# Altium footprint library conn.PcbLib: 17 footprints (part 1 of 2)
Each footprint in its own frame and in the unit in brackets; x right, y up, seen from the top. Pads: shape width x height; smd on the part's side, far side on the other; paste and mask are expansions set on the pad; w line width, h text height; cw(c..) or ccw(c..) is an arc to the next point about the centre after c.
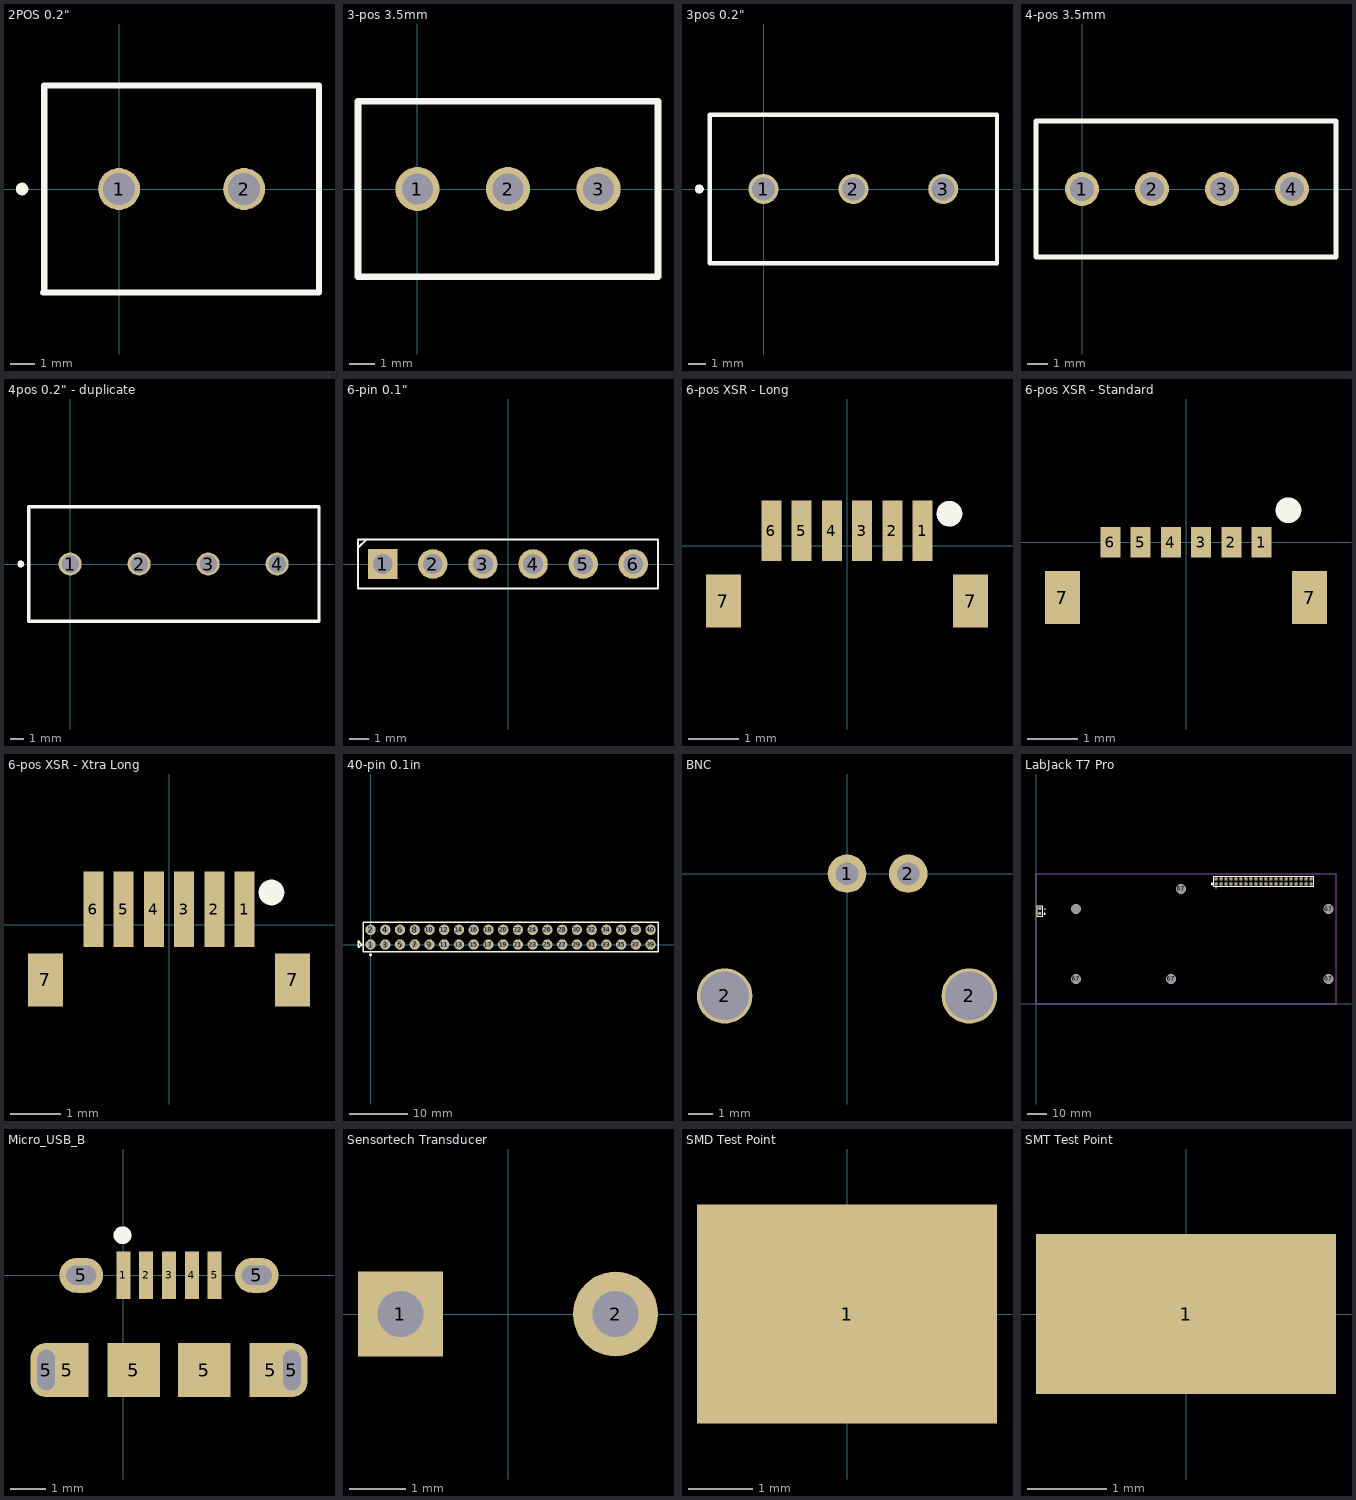
[diagram p0: the footprints below, top view; thin cyan lines are the x and y axes]

## 2POS 0.2" [mm]
pads (2):
  round 1.7 hole 1.3: 1(0,0) 2(5.08,0)
Top Overlay:
  circle w0.254: c-3.937,0 r0.127
  lines w0.254: -3.08,-4.2 8.12,-4.2 8.12,4.2 -3.04,4.2 -3.04,-4.16

## 3-pos 3.5mm [mm]
pads (3):
  round 1.7 hole 1.2: 1(0,0) 2(3.5,0) 3(7,0)
Top Overlay:
  lines w0.254: -2.3,-3.4 -2.3,3.4 9.3,3.4 9.3,-3.4 -2.3,-3.4

## 3pos 0.2" [mm]
pads (3):
  round 1.7 hole 1.3: 1(0,0) 2(5.08,0) 3(10.16,0)
Top Overlay:
  circle w0.254: c-3.632,0 r0.13
  lines w0.254: -3.04,-4.2 13.2,-4.2 13.2,4.2 -3.04,4.2 -3.04,-4.2

## 4-pos 3.5mm [mm]
pads (4):
  round 1.7 hole 1.2: 1(0,0) 2(3.5,0) 3(7,0) 4(10.5,0)
Top Overlay:
  lines w0.254: -2.3,-3.4 12.7,-3.4 12.7,3.4 -2.3,3.4 -2.3,-3.4

## 4pos 0.2" - duplicate [mm]
pads (4):
  round 1.7 hole 1.3: 1(0,0) 2(5.08,0) 3(10.16,0) 4(15.24,0)
Top Overlay:
  circle w0.254: c-3.632,0 r0.13
  lines w0.254: -3.04,-4.2 18.32,-4.2 18.32,4.2 -3.04,4.2 -3.04,-4.2

## 6-pin 0.1" [mm]
pads (6):
  rect 1.5x1.5 hole 1: 1(-6.35,0)
  round 1.5 hole 1: 2(-3.81,0) 3(-1.27,0) 4(1.27,0) 5(3.81,0) 6(6.35,0)
Top Overlay:
  lines w0.1: -7.595,0.838 -7.575,0.838 -7.163,1.25 ; -7.6,-1.25 -7.6,1.25 7.6,1.25 7.6,-1.25 -7.6,-1.25

## 6-pos XSR - Long [mm]
pads (8):
  rect 0.4x1.2 smd: 1(1.499,0.3) 2(0.9,0.3) 3(0.3,0.3) 4(-0.3,0.3) 5(-0.9,0.3) 6(-1.5,0.3)
  rect 0.7x1.05 smd: 7(-2.45,-1.1) 7(2.45,-1.1)
Top Overlay:
  circle w0.254: c2.032,0.635 r0.127
3D body: height 1.45, standoff 0, extent -2.1,-1.525 2.1,0

## 6-pos XSR - Standard [mm]
pads (8):
  rect 0.4x0.6 smd: 1(1.5,0) 2(0.9,0) 3(0.3,0) 4(-0.3,0) 5(-0.9,0) 6(-1.5,0)
  rect 0.7x1.05 smd: 7(-2.45,-1.1) 7(2.45,-1.1)
Top Overlay:
  circle w0.254: c2.032,0.635 r0.127
3D body: height 1.45, standoff 0, extent -2.1,-1.525 2.1,0

## 6-pos XSR - Xtra Long [mm]
pads (8):
  rect 0.4x1.5 smd: 1(1.499,0.3) 2(0.9,0.3) 3(0.3,0.3) 4(-0.3,0.3) 5(-0.9,0.3) 6(-1.5,0.3)
  rect 0.7x1.05 smd: 7(-2.45,-1.1) 7(2.45,-1.1)
Top Overlay:
  circle w0.254: c2.032,0.635 r0.127
3D body: height 1.45, standoff 0, extent -2.1,-1.525 2.1,0

## 40-pin 0.1in [mil]
pads (40):
  round 70 hole 43: 1(0,0) 2(0,100) 3(100,0) 4(100,100) 5(200,0) 6(200,100) 7(300,0) 8(300,100) 9(400,0) 10(400,100) 11(500,0) 12(500,100) 13(600,0) 14(600,100) 15(700,0) 16(700,100) 17(800,0) 18(800,100) 19(900,0) 20(900,100) 21(1000,0) 22(1000,100) 23(1100,0) 24(1100,100) 25(1200,0) 26(1200,100) 27(1300,0) 28(1300,100) 29(1400,0) 30(1400,100) 31(1500,0) 32(1500,100) 33(1600,0) 34(1600,100) 35(1700,0) 36(1700,100) 37(1800,0) 38(1800,100) 39(1900,0) 40(1900,100)
Top Overlay:
  circle w10: c0,-70 r5
  lines w10: -85,-20 -80,-20 -60,0 -85,25 -85,-20 ; -50,-50 -50,150 1950,150 1950,-50 -50,-50

## BNC [mm]
pads (4):
  round 1.6 hole 0.94: 1(0,0) 2(2.54,0)
  round 2.3 hole 2.01: 2(-5.08,-5.08) 2(5.08,-5.08)

## LabJack T7 Pro [mil]
pads (48):
  round 70 hole 43: 1(78.74,1911.02) 1(3600,2400) 1(3600,2500) 1(4300,2500) 1(4500,2500) 1(4700,2400) 1(5400,2500) 1(5500,2400) 1(5500,2500) 3(3700,2400) 4(3700,2500) 5(3800,2400) 6(3800,2500) 7(3900,2400) 8(3900,2500) 9(4000,2400) 10(4000,2500) 11(4100,2400) 12(4100,2500) 13(4200,2400) 14(4200,2500) 15(4300,2400) 17(4400,2400) 18(4400,2500) 19(4500,2400) 21(4600,2400) 22(4600,2500) 24(4700,2500) 25(4800,2400) 26(4800,2500) 27(4900,2400) 28(4900,2500) 29(5000,2400) 30(5000,2500) 31(5100,2400) 32(5100,2500) 33(5200,2400) 34(5200,2500) 35(5300,2400) 36(5300,2500) 37(5400,2400) 100(78.74,1811.02)
  round 196.85 hole 179.92: 67(800,500) 67(2700,500) 67(2900,2300) 67(5850,500) 67(5850,1900) 676(800,1900)
Top Overlay:
  circle w10: c3600,2330 r5
  lines w10: 155,1810 195,1810 ; 160,1905 190,1905 ; 175,1790 175,1830 ; 25,1755 135,1755 135,1965 25,1965 25,1755 ; 3515,2380 3515,2420 3520,2420 3540,2400 3520,2380 3515,2380 ; 3550,2350 3550,2550 5550,2550 5550,2350 3550,2350
Outline:
  lines w10: 0,0 6000,0 6000,2600 0,2600 0,0

## Micro_USB_B [mm]
pads (13):
  rect 0.4x1.35 smd: 1(0,0) 2(0.65,0) 3(1.3,0) 4(1.95,0) 5(2.6,0)
  oval 0.9x1.55 hole 0.5 slot 1.15 at 90 deg: 5(-2.2,-2.7) 5(4.8,-2.7)
  rect 1.2x1.55 smd: 5(-1.6,-2.7) 5(4.2,-2.7)
  oval 1.25x1 hole 0.55 slot 0.85 at 0 deg: 5(-1.2,0) 5(3.8,0)
  rect 1.5x1.55 smd: 5(0.3,-2.7) 5(2.3,-2.7)
Top Overlay:
  circle w0.254: c-0.025,1.143 r0.127

## Sensortech Transducer [mm]
pads (2):
  rect 1.5x1.5 hole 0.81: 1(-1.9,0)
  round 1.5 hole 0.81: 2(1.9,0)

## SMD Test Point [mm]
pads (1):
  rect 4.7x3.43 smd: 1(0,0)

## SMT Test Point [mm]
pads (1):
  rect 3.8x2.03 smd: 1(0,0)